# Altium footprint library VFQFN-16 (3x3).PcbLib: 1 footprints
Each footprint in its own frame and in the unit in brackets; x right, y up, seen from the top. Pads: shape width x height; smd on the part's side, far side on the other; paste and mask are expansions set on the pad; w line width, h text height; cw(c..) or ccw(c..) is an arc to the next point about the centre after c.
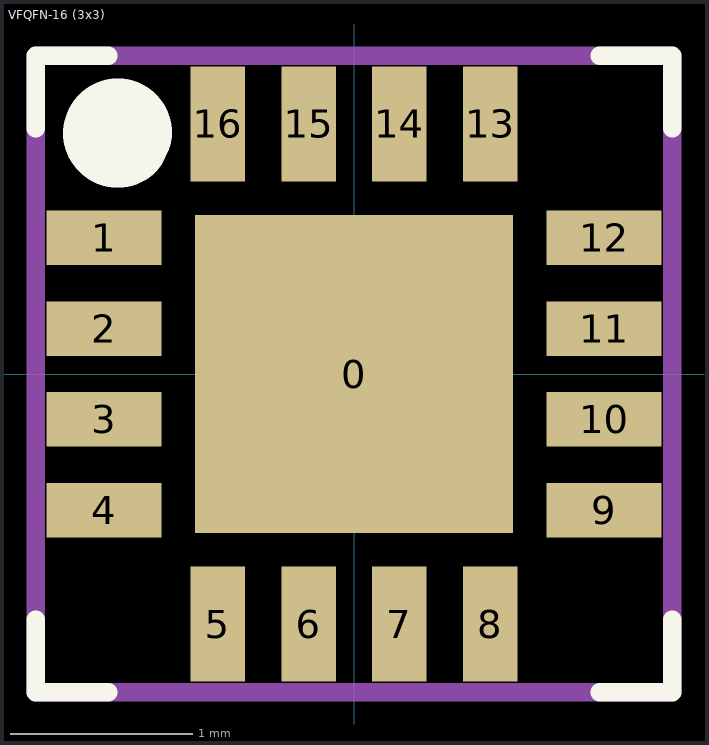
[diagram p0: the footprint, top view; thin cyan lines are the x and y axes]

## VFQFN-16 (3x3) [mm] "VFQFN-16 (3x3)"
pads (17):
  rect 1.75x1.75 smd mask+0.025: 0(0,0)
  rect 0.63x0.3 smd mask+0.015: 1(-1.375,0.75) 2(-1.375,0.25) 3(-1.375,-0.25) 4(-1.375,-0.75) 9(1.375,-0.75) 10(1.375,-0.25) 11(1.375,0.25) 12(1.375,0.75)
  rect 0.3x0.63 smd mask+0.015: 5(-0.75,-1.375) 6(-0.25,-1.375) 7(0.25,-1.375) 8(0.75,-1.375) 13(0.75,1.375) 14(0.25,1.375) 15(-0.25,1.375) 16(-0.75,1.375)
Top Overlay:
  lines w0.1: -1.75,-1.35 -1.75,-1.75 -1.35,-1.75 ; -1.75,1.35 -1.75,1.75 -1.35,1.75 ; 1.35,-1.75 1.75,-1.75 1.75,-1.35 ; 1.35,1.75 1.75,1.75 1.75,1.35
  lines w0.5: -1.271,1.284 cw(c-1.3,1.325) -1.25,1.325
Top Assembly:
  lines w0.1: -1.75,-1.75 1.75,-1.75 1.75,1.75 -1.75,1.75 -1.75,-1.75
  text "'.Designator'" at -1,-0.3 h0.7
3D body "User Library-QFN16_Si3307.step": height 0.85, standoff -0.01, extent -1.5,-1.5 1.5,1.5